# Altium footprint library theswitch.PcbLib: 17 footprints (part 1 of 2)
Each footprint in its own frame and in the unit in brackets; x right, y up, seen from the top. Pads: shape width x height; smd on the part's side, far side on the other; paste and mask are expansions set on the pad; w line width, h text height; cw(c..) or ccw(c..) is an arc to the next point about the centre after c.
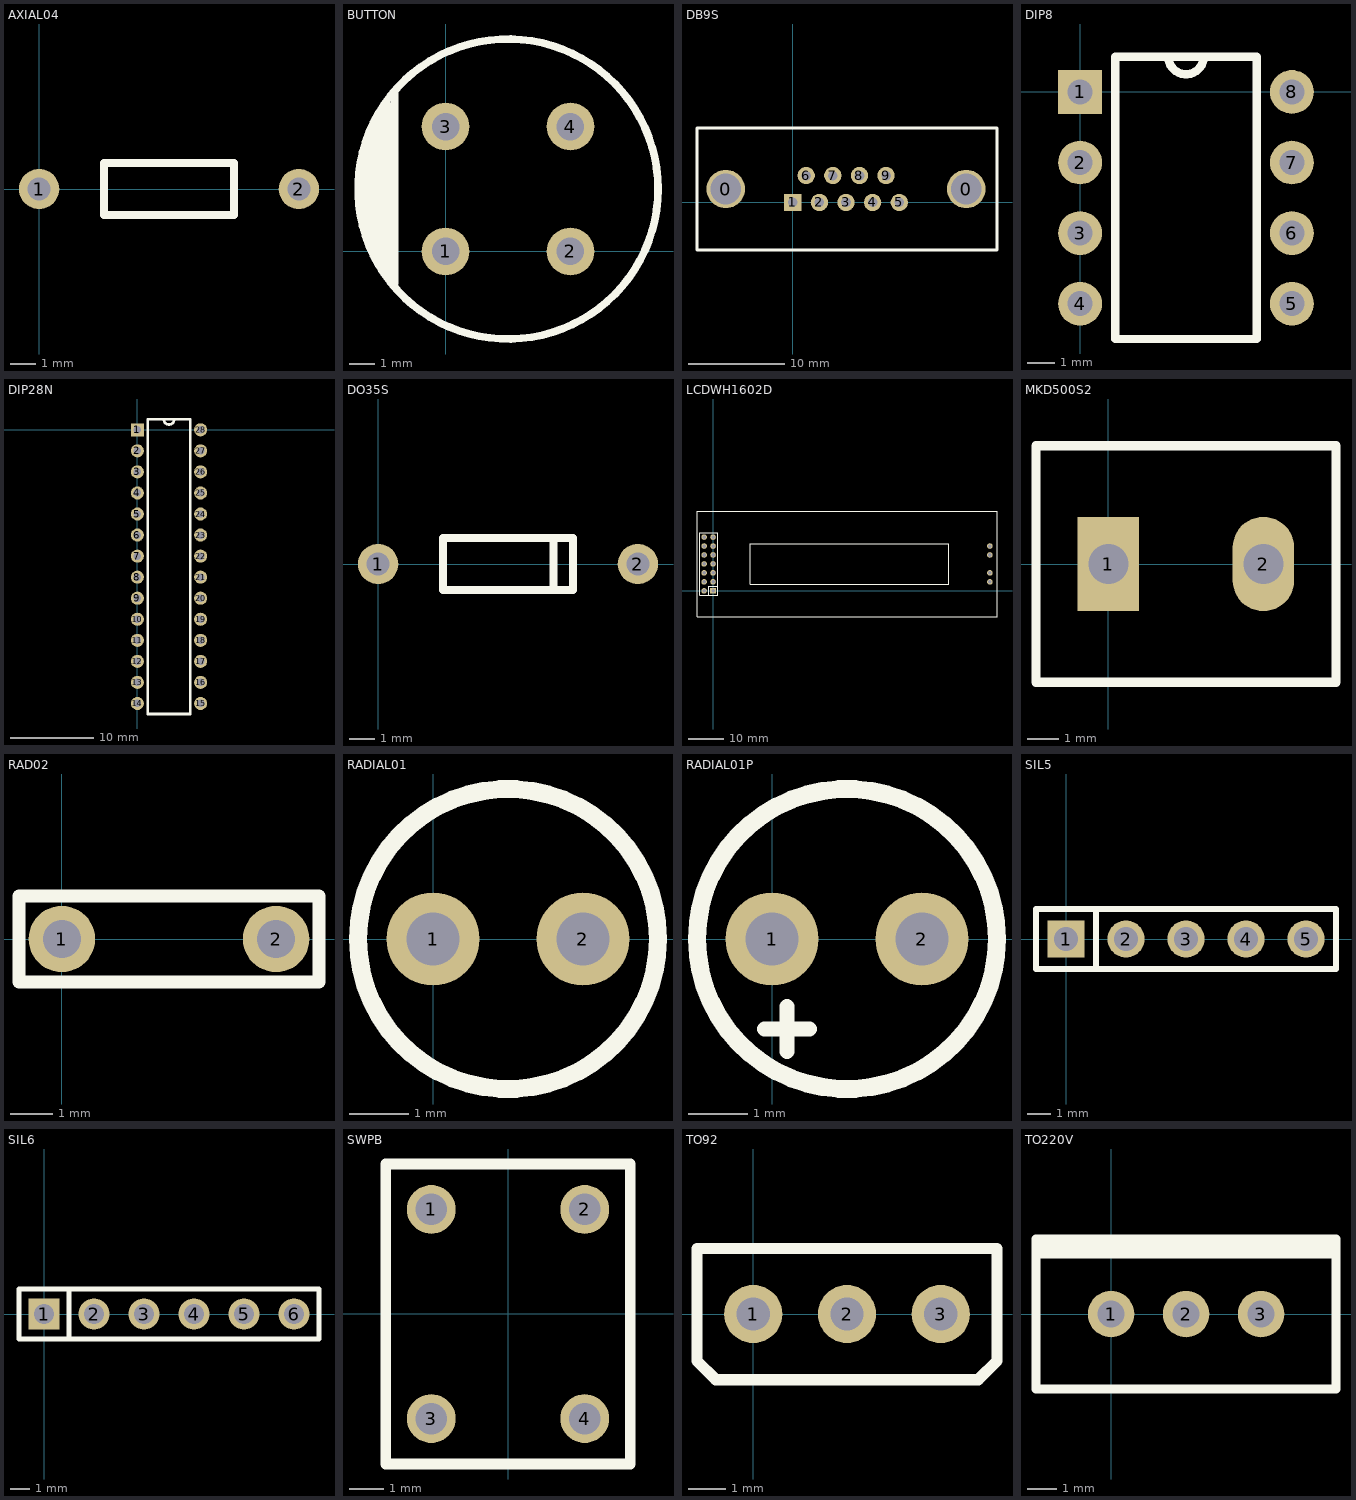
[diagram p0: the footprints below, top view; thin cyan lines are the x and y axes]

## AXIAL04 [mil]
pads (2):
  round 62 hole 35.43: 1(0,0) 2(400,0)
Top Overlay:
  lines w12: 100,-40 300,-40 300,38.74 ; 100,-38.74 100,40 300,40

## BUTTON [mm]
pads (4):
  round 1.905 hole 1.1: 1(0,0) 2(5,0) 3(0,5) 4(5,5)
Top Overlay:
  circle w0.305: c2.5,2.5 r6
  lines w0.305: -3.302,1.27 -3.302,3.81 ; -3.048,0.508 -3.048,4.572 ; -2.794,0 -2.794,5.08 ; -2.54,-0.762 -2.54,5.588 ; -2.286,-1.016 -2.286,5.842 ; -2.032,-1.27 -2.032,6.35

## DB9S [mm]
pads (11):
  round 4 hole 3.2: 0(-6.963,1.397) 0(18.037,1.397)
  rect 1.8x1.8 hole 1: 1(0,0)
  round 1.8 hole 1: 2(2.769,0) 3(5.537,0) 4(8.306,0) 5(11.074,0) 6(1.397,2.794) 7(4.166,2.794) 8(6.934,2.794) 9(9.703,2.794)
Top Overlay:
  lines w0.305: -9.957,-4.953 -9.957,7.747 21.234,7.747 21.234,-4.953 -9.957,-4.953

## DIP8 [mil]
pads (8):
  rect 62x62 hole 35.43: 1(0,0)
  round 62 hole 35.43: 2(0,-100) 3(0,-200) 4(0,-300) 5(300,-300) 6(300,-200) 7(300,-100) 8(300,0)
Top Overlay:
  lines w12: 125,50 ccw(c150,50) 175,50 ; 50,-350 250,-350 250,50 50,50 50,-350

## DIP28N [mil]
pads (28):
  rect 62x62 hole 35.43: 1(0,0)
  round 62 hole 35.43: 2(0,-100) 3(0,-200) 4(0,-300) 5(0,-400) 6(0,-500) 7(0,-600) 8(0,-700) 9(0,-800) 10(0,-900) 11(0,-1000) 12(0,-1100) 13(0,-1200) 14(0,-1300) 15(300,-1300) 16(300,-1200) 17(300,-1100) 18(300,-1000) 19(300,-900) 20(300,-800) 21(300,-700) 22(300,-600) 23(300,-500) 24(300,-400) 25(300,-300) 26(300,-200) 27(300,-100) 28(300,0)
Top Overlay:
  lines w12: 125,50 ccw(c150,50) 175,50 ; 50,-1350 50,50 250,50 250,-1350 50,-1350

## DO35S [mil]
pads (2):
  round 62 hole 35.43: 1(0,0) 2(400,0)
Top Overlay:
  lines w12: 100,-40 300,-40 300,38.74 ; 100,-38.74 100,40 300,40
  lines w12.04: 270,-40 270,38.74

## LCDWH1602D [mil]
pads (18):
  rect 62x62 hole 39.37: 1(0,0)
  round 62 hole 39.37: 2(-100,0) 3(0,100) 4(-100,100) 5(0,200) 6(-100,200) 7(0,300) 8(-100,300) 9(0,400) 10(-100,400) 11(0,500) 12(-100,500) 13(0,600) 14(-100,600) 15(3088.98,500) 16(3088.98,400) 17(3088.98,200) 18(3088.98,100)
Top Overlay:
  lines w12: -50,-50 -50,50 50,50 ; 3167.72,-291.1 3167.72,890 -178.74,890 -178.74,-290 3167.72,-290 ; -150,-50 -150,650 50,650 50,-50 -150,-50 ; 417.72,73.07 417.72,525.83 2630.32,525.83 2630.32,73.07 417.72,73.07

## MKD500S2 [mil]
pads (2):
  rect 78x120 hole 51.18: 1(0,0)
  oval 78x120 hole 51.18: 2(196.85,0)
Top Overlay:
  lines w12: -92,-150 -92,150 289,150 289,-150 -92,-150

## RAD02 [mil]
pads (2):
  round 62 hole 35.43: 1(0,0) 2(200,0)
Top Overlay:
  lines w12: -40,-40 140,-40 240,-40 240,40 140,40 -40,40 -40,-40

## RADIAL01 [mil]
pads (2):
  round 62 hole 35.43: 1(0,0) 2(100,0)
Top Overlay:
  circle w12: c50,0 r100

## RADIAL01P [mil]
pads (2):
  round 62 hole 35.43: 1(0,0) 2(100,0)
Top Overlay:
  circle w12: c50,0 r100
  lines w10: -5,-60 25,-60 ; 10,-75 10,-45

## SIL5 [mil]
pads (5):
  rect 62x62 hole 39.37: 1(0,0)
  round 62 hole 39.37: 2(100,0) 3(200,0) 4(300,0) 5(400,0)
Top Overlay:
  lines w10: 50,-50 50,50 ; -50,-50 -50,50 450,50 450,-50 -50,-50

## SIL6 [mil]
pads (6):
  rect 62x62 hole 39.37: 1(0,0)
  round 62 hole 39.37: 2(100,0) 3(200,0) 4(300,0) 5(400,0) 6(500,0)
Top Overlay:
  lines w10: 50,-50 50,50 ; -50,-50 550,-50 550,50 -50,50 -50,-50

## SWPB [mm]
pads (4):
  round 1.4 hole 0.9: 1(-2.2,3) 2(2.2,3) 3(-2.2,-3) 4(2.2,-3)
Top Overlay:
  lines w0.306: -3.5,-4.3 -3.5,4.3 3.5,4.3 3.5,-4.3 -3.5,-4.3

## TO92 [mil]
pads (3):
  round 62 hole 35.43: 1(0,0) 2(100,0) 3(200,0)
Top Overlay:
  lines w12: -60,-50 -40,-70 240,-70 260,-50 260,70 -60,70 -60,-50

## TO220V [mil]
pads (3):
  round 62 hole 36: 1(0,0) 2(100,0) 3(200,0)
Top Overlay:
  lines w12: -100,80 300,80 ; -100,90 300,90 ; -100,-100 300,-100 300,100 -100,100 -100,-90 -100,-100